# Altium footprint library RPSLib_Capacitors.PcbLib: 28 footprints (part 2 of 2)
Each footprint in its own frame and in the unit in brackets; x right, y up, seen from the top. Pads: shape width x height; smd on the part's side, far side on the other; paste and mask are expansions set on the pad; w line width, h text height; cw(c..) or ccw(c..) is an arc to the next point about the centre after c.
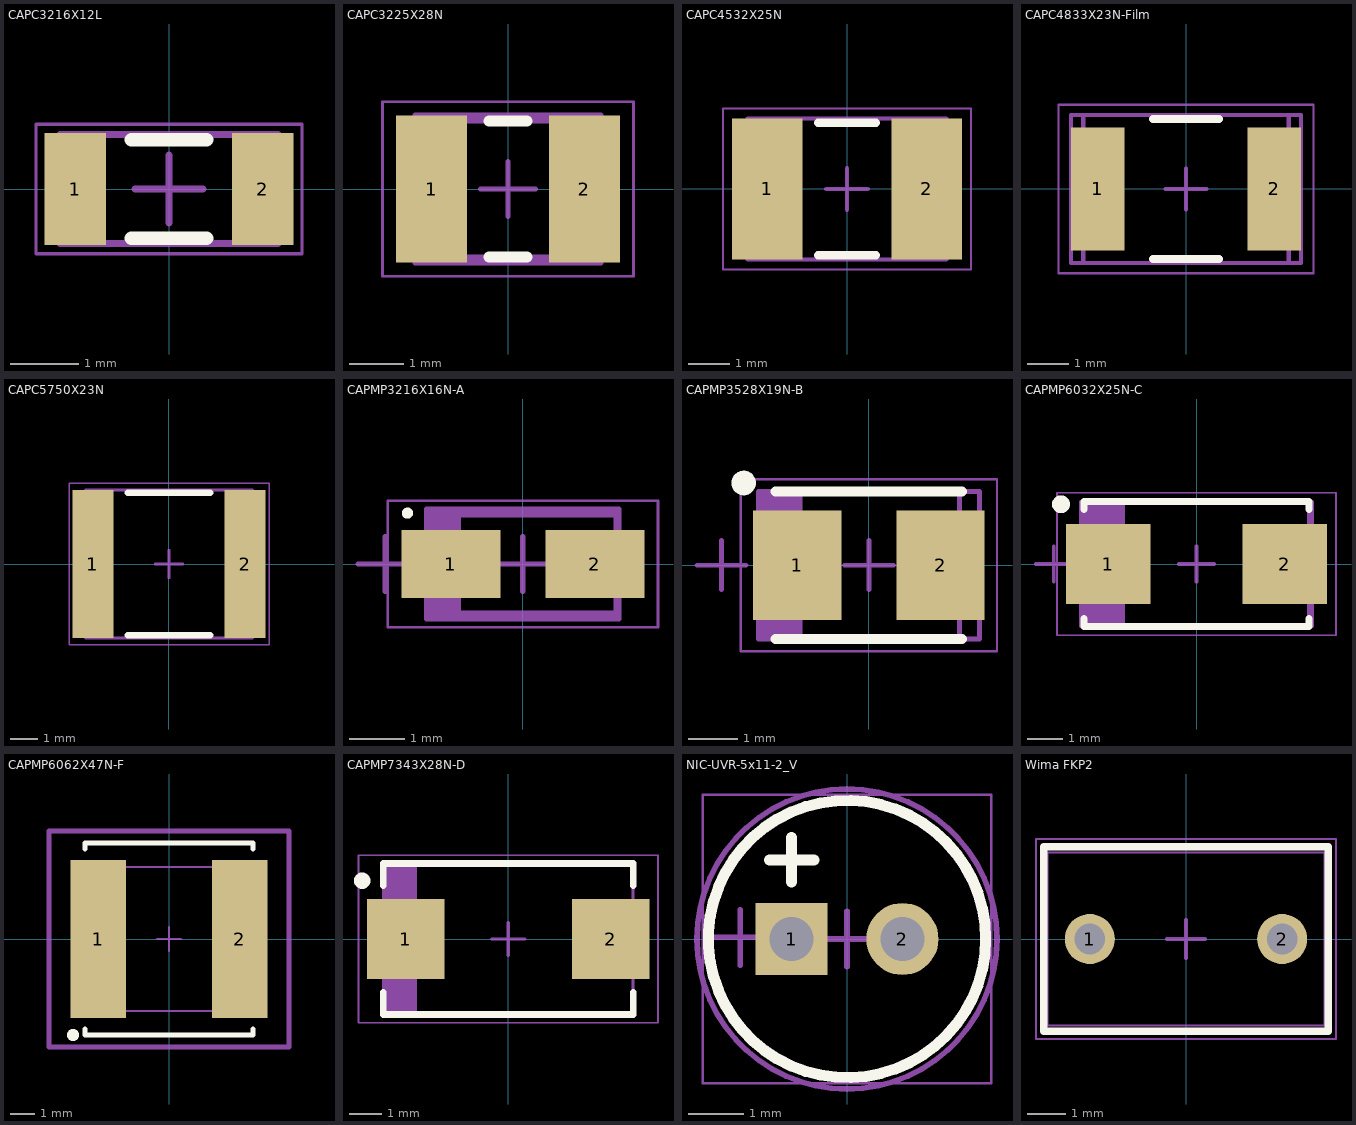
[diagram p1: the footprints below, top view; thin cyan lines are the x and y axes]

## CAPC3216X12L [mm] "Chip Capacitor, 2-Leads, Body 3.20x1.60mm, IPC High Density"
height 1.25
pads (2):
  rect 0.9x1.65 smd paste-0.05 mask+0.07: 1(-1.375,0) 2(1.375,0)
Top Overlay:
  lines w0.2: -0.55,-0.725 0.55,-0.725 ; -0.55,0.725 0.55,0.725
Mechanical 13:
  lines w0.1: -1.6,-0.8 -1.6,0.8 1.6,0.8 1.6,-0.8 -1.6,-0.8
Mechanical 15:
  lines w0.05: -1.95,-0.95 -1.95,0.95 1.95,0.95 1.95,-0.95 -1.95,-0.95
  lines w0.1: -0.5,0 0.5,0 ; 0,-0.5 0,0.5
3D body "CAPC3216X12L.step": height 1.25, standoff 0, extent -1.6,-0.8 1.6,0.8

## CAPC3225X28N [mm] "Chip Capacitor, 2-Leads, Body 3.20x2.50mm, IPC Medium Density"
height 2.79
pads (2):
  rect 1.3x2.7 smd: 1(-1.4,0) 2(1.4,0)
Top Overlay:
  lines w0.2: -0.35,-1.25 0.35,-1.25 ; -0.35,1.25 0.35,1.25
Mechanical 1:
  lines w0.1: -2,-1.25 -2,1.25 2,1.25 2,-1.25 -2,-1.25
  text ".Designator" at -1.126,-0.113 h0.5
Mechanical 13:
  lines w0.1: -1.7,-1.35 1.7,-1.35 1.7,1.35 -1.7,1.35 -1.7,-1.35
Mechanical 15:
  lines w0.05: -2.3,-1.6 2.3,-1.6 2.3,1.6 -2.3,1.6 -2.3,-1.6
  lines w0.1: -0.5,0 0.5,0 ; 0,-0.5 0,0.5
3D body "CAPC3225X28N.step": height 2.79, standoff 0, extent -1.7,-1.35 1.7,1.35

## CAPC4532X25N [mm] "Chip Capacitor, 2-Leads, Body 4.50x3.20mm, IPC Medium Density"
height 2.54
pads (2):
  rect 1.7x3.4 smd paste-0.06 mask+0.07: 1(-1.925,0) 2(1.925,0)
Top Overlay:
  lines w0.2: -0.7,-1.6 0.7,-1.6 ; -0.7,1.6 0.7,1.6
Mechanical 13:
  lines w0.1: -2.4,-1.7 -2.4,1.7 2.4,1.7 2.4,-1.7 -2.4,-1.7
Mechanical 15:
  lines w0.05: -3,-1.95 -3,1.95 3,1.95 3,-1.95 -3,-1.95
  lines w0.1: -0.5,0 0.5,0 ; 0,-0.5 0,0.5
3D body "CAPC4532X25N.step": height 2.54, standoff 0, extent -2.4,-1.7 2.4,1.7

## CAPC4833X23N-Film [mm] "Chip Capacitor, 2-Leads, Body 4,80x3,30mm, IPC Medium Density"
height 2.3
pads (2):
  rect 1.3x3 smd: 1(-2.15,0) 2(2.15,0)
Top Overlay:
  lines w0.2: -0.8,-1.7 0.8,-1.7 ; -0.8,1.7 0.8,1.7
Mechanical 1:
  lines w0.1: -2.8,-1.8 2.8,-1.8 2.8,1.8 -2.8,1.8 -2.8,-1.8
  text ".Designator" at -1.126,-0.113 h0.5
Mechanical 13:
  lines w0.1: -2.5,-1.8 2.5,-1.8 2.5,1.8 -2.5,1.8 -2.5,-1.8
Mechanical 15:
  lines w0.05: -3.1,-2.05 3.1,-2.05 3.1,2.05 -3.1,2.05 -3.1,-2.05
  lines w0.1: -0.5,0 0.5,0 ; 0,-0.5 0,0.5
3D body "CAPC4833X23N.step": height 2.3, standoff 0, extent -2.5,-1.8 2.5,1.8

## CAPC5750X23N [mm] "Chip Capacitor, 2-Leads, Body 5.70x5.00mm, IPC Medium Density"
height 2.3
pads (2):
  rect 1.5x5.4 smd paste-0.05 mask+0.07: 1(-2.775,0) 2(2.775,0)
Top Overlay:
  lines w0.25: -1.5,-2.6 1.5,-2.6 ; -1.5,2.6 1.5,2.6
Mechanical 13:
  lines w0.1: -3.05,-2.7 -3.05,2.7 3.05,2.7 3.05,-2.7 -3.05,-2.7
Mechanical 15:
  lines w0.05: -3.65,-2.95 -3.65,2.95 3.65,2.95 3.65,-2.95 -3.65,-2.95
  lines w0.1: -0.5,0 0.5,0 ; 0,-0.5 0,0.5
3D body "CAPC5750X23N.step": height 2.3, standoff 0, extent -3.05,-2.7 3.05,2.7

## CAPMP3216X16N-A [mm] "Molded Capacitor, 2-Leads, Body 3.20x1.60mm, IPC Medium Density"
height 1.6
pads (2):
  rect 1.8x1.23 smd: 1(-1.31,0) 2(1.31,0)
Top Overlay:
  circle w0.1: c-2.1,0.925 r0.05
Mechanical 1:
  rectangle: -1.75,-1 -1.126,1
  lines w0.1: -3,0 -2,0 ; -2.5,-0.5 -2.5,0.5 ; -1.75,-1 -1.75,1 1.75,1 1.75,-1 -1.75,-1
  text ".Designator" at -1.126,-0.113 h0.5
Mechanical 13:
  rectangle: -1.7,-0.9 -1.243,0.9
  lines w0.1: -1.7,-0.9 -1.7,0.9 1.7,0.9 1.7,-0.9 -1.7,-0.9
Mechanical 15:
  lines w0.05: -2.46,-1.15 2.46,-1.15 2.46,1.15 -2.46,1.15 -2.46,-1.15
  lines w0.1: -0.5,0 0.5,0 ; 0,-0.5 0,0.5
3D body "CAPMP3216X16N.step": height 1.6, standoff 0, extent -1.92,-0.9 1.92,0.9

## CAPMP3528X19N-B [mm] "Molded Capacitor, 2-Leads, Body 3.50x2.80mm, IPC Medium Density"
height 1.9
pads (2):
  rect 1.8x2.23 smd: 1(-1.46,0) 2(1.46,0)
Top Overlay:
  circle w0.25: c-2.55,1.675 r0.125
  lines w0.2: -1.9,-1.5 1.9,-1.5 ; -1.9,1.5 1.9,1.5
Mechanical 1:
  rectangle: -2.25,-1.5 -1.464,1.5
  lines w0.1: -3.5,0 -2.5,0 ; -3,-0.5 -3,0.5 ; -2.25,-1.5 2.25,-1.5 2.25,1.5 -2.25,1.5 -2.25,-1.5
  text ".Designator" at -1.126,-0.113 h0.5
Mechanical 13:
  rectangle: -1.85,-1.5 -1.352,1.5
  lines w0.1: -1.85,-1.5 -1.85,1.5 1.85,1.5 1.85,-1.5 -1.85,-1.5
Mechanical 15:
  lines w0.05: -2.61,-1.75 2.61,-1.75 2.61,1.75 -2.61,1.75 -2.61,-1.75
  lines w0.1: -0.5,0 0.5,0 ; 0,-0.5 0,0.5
3D body "CAPMP3528X19N.step": height 1.9, standoff 0, extent -2.07,-1.5 2.07,1.5

## CAPMP6032X25N-C [mm] "Molded Capacitor, 2-Leads, Body 6.00x3.20mm, IPC Medium Density"
height 2.5
pads (2):
  rect 2.37x2.23 smd: 1(-2.47,0) 2(2.47,0)
Top Overlay:
  circle w0.25: c-3.8,1.675 r0.125
  lines w0.2: -3.15,-1.525 -3.15,-1.75 3.15,-1.75 3.15,-1.525 ; -3.15,1.525 -3.15,1.75 3.15,1.75 3.15,1.525
Mechanical 1:
  rectangle: -3.25,-1.75 -2,1.75
  lines w0.1: -4.5,0 -3.5,0 ; -4,-0.5 -4,0.5 ; -3.25,-1.75 3.25,-1.75 3.25,1.75 -3.25,1.75 -3.25,-1.75
  text ".Designator" at -1.126,-0.113 h0.5
Mechanical 13:
  rectangle: -3.15,-1.75 -2.303,1.75
  lines w0.1: -3.15,-1.75 3.15,-1.75 3.15,1.75 -3.15,1.75 -3.15,-1.75
Mechanical 15:
  lines w0.05: -3.91,-2 -3.91,2 3.91,2 3.91,-2 -3.91,-2
  lines w0.1: -0.5,0 0.5,0 ; 0,-0.5 0,0.5
3D body "CAPMP6032X25N.step": height 2.5, standoff 0, extent -3.37,-1.75 3.37,1.75

## CAPMP6062X47N-F [mm] "Molded Capacitor, 2-Leads, Body 6.00x6.20mm, IPC Medium Density"
height 4.7
pads (2):
  rect 2.3x6.6 smd: 1(-2.95,0) 2(2.95,0)
Top Overlay:
  circle w0.25: c-4,-4 r0.125
  lines w0.2: -3.5,-3.75 -3.5,-4 3.5,-4 3.5,-3.75 ; -3.5,3.75 -3.5,4 3.5,4 3.5,3.75
Mechanical 13:
  lines w0.1: -3.1,-3 -3.1,3 3.1,3 3.1,-3 -3.1,-3
Mechanical 15:
  lines w0.1: -0.5,0 0.5,0 ; 0,-0.5 0,0.5
  lines w0.2: -5,-4.5 -5,4.5 5,4.5 5,-4.5 -5,-4.5
3D body: height 4.7, standoff 0.1, extent -3.1,-3 3.1,3

## CAPMP7343X28N-D [mm] "Molded Capacitor, 2-Leads, Body 7.30x4.30mm, IPC Medium Density"
height 2.8
pads (2):
  rect 2.37x2.43 smd: 1(-3.12,0) 2(3.12,0)
Top Overlay:
  circle w0.25: c-4.45,1.775 r0.125
  lines w0.2: -3.8,-1.625 -3.8,-2.3 3.8,-2.3 3.8,-1.625 ; -3.8,1.625 -3.8,2.3 3.8,2.3 3.8,1.625
Mechanical 13:
  rectangle: -3.8,-2.3 -2.778,2.3
  lines w0.1: -3.8,-2.3 3.8,-2.3 3.8,2.3 -3.8,2.3 -3.8,-2.3
Mechanical 15:
  lines w0.05: -4.56,-2.55 4.56,-2.55 4.56,2.55 -4.56,2.55 -4.56,-2.55
  lines w0.1: -0.5,0 0.5,0 ; 0,-0.5 0,0.5
3D body "CAPMP7343X28N.step": height 2.8, standoff 0, extent -4.02,-2.3 4.02,2.3

## NIC-UVR-5x11-2_V [mm] "THD, 2-Leads, Dia 5mm, Body Length 11mm, Pin Spacing 2mm"
height 12.5
pads (2):
  rect 1.3x1.3 hole 0.8: 1(-1,0)
  round 1.3 hole 0.8: 2(1,0)
Top Overlay:
  circle w0.2: c0,0 r2.5
  lines w0.2: -1.4,1.425 -0.6,1.425 ; -1,1.025 -1,1.825
Mechanical 1:
  circle w0.1: c0,0 r2.704
  lines w0.1: -2.428,0.029 -1.428,0.029 ; -1.928,-0.471 -1.928,0.529
  text ".Designator" at -1.126,-0.113 h0.5
Mechanical 13:
  circle w0.1: c0,0 r2.5
Mechanical 15:
  lines w0.05: -2.6,-2.6 -2.6,2.6 2.6,2.6 2.6,-2.6 -2.6,-2.6
  lines w0.1: -0.5,0 0.5,0 ; 0,-0.5 0,0.5
3D body: height 12.5, standoff 1.5, extent -2.499,-2.499 2.499,2.499
3D body: height 1.5, standoff -3, extent -1.248,-0.249 -0.75,0.25
3D body: height 1.5, standoff -2, extent 0.752,-0.249 1.25,0.25

## Wima FKP2 [mm] "THD, 2-Leads, 4.5x7.2x6. Body Length 11mm, Pin Spacing 2mm"
height 6
pads (2):
  round 1.3 hole 0.8: 1(-2.5,0) 2(2.5,0)
Top Overlay:
  lines w0.2: -3.7,-2.4 3.7,-2.4 3.7,2.4 -3.7,2.4 -3.7,-2.4
Mechanical 1:
  lines w0.1: -3.7,-2.4 -3.7,2.4 3.7,2.4 3.7,-2.4 -3.7,-2.4
  text ".Designator" at -1.126,-0.113 h0.5
Mechanical 13:
  lines w0.05: -3.6,-2.25 3.6,-2.25 3.6,2.25 -3.6,2.25 -3.6,-2.25
Mechanical 15:
  lines w0.05: -3.9,-2.6 3.9,-2.6 3.9,2.6 -3.9,2.6 -3.9,-2.6
  lines w0.1: -0.5,0 0.5,0 ; 0,-0.5 0,0.5
3D body "Wima FPK2.stp": height 6.2, standoff -4.8, extent -3.6,-2.25 3.6,2.25